# EAGLE library part NSH12 (library 08_CONECTOR)
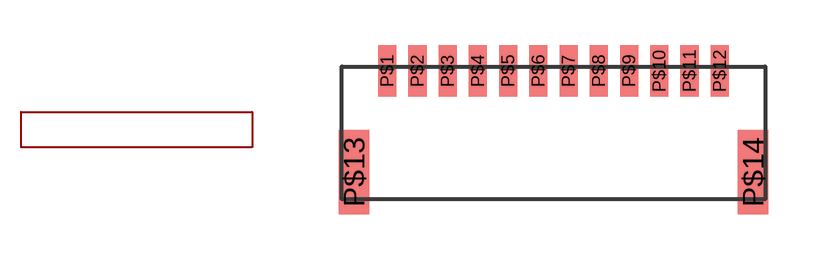
[diagram p8: symbol with the pads of NSH; footprint NSH]

Designator prefix -

## NSH12  [NSH]
P$1  P$1
P$2  P$2
P$3  P$3
P$4  P$4
P$5  P$5
P$6  P$6
P$7  P$7
P$8  P$8
P$9  P$9
P$10  P$10
P$11  P$11
P$12  P$12

## Footprint NSH (pad centres in mm)
smd 0.6 x 1.7: P$1 -5.5,0.85; P$2 -4.5,0.85; P$3 -3.5,0.85; P$4 -2.5,0.85; P$5 -1.5,0.85; P$6 -0.5,0.85; P$7 0.5,0.85; P$8 1.5,0.85; P$9 2.5,0.85; P$10 3.5,0.85; P$11 4.5,0.85; P$12 5.5,0.85
smd 1 x 2.8: P$13 -6.6,-2.5; P$14 6.6,-2.5